# EAGLE library part 504077-1891 (library 504077-1891)
Micro SD card Connector + detect switch Micro SD card Connector + detect switch Source: Datasheet
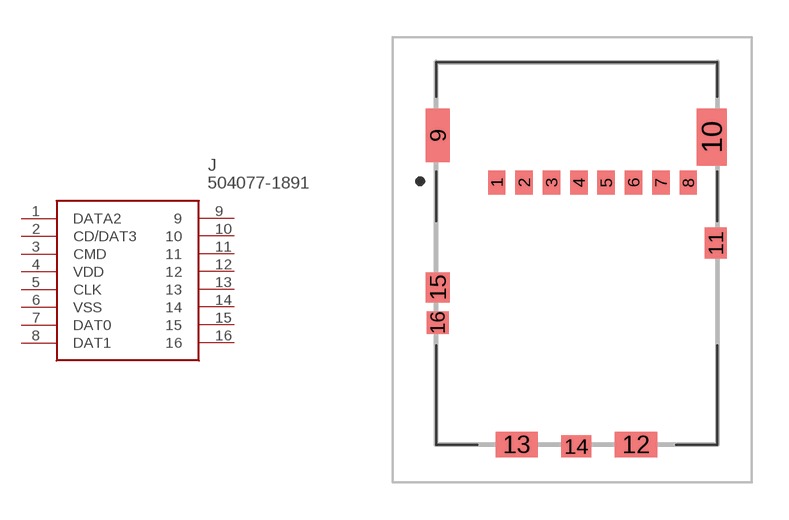
[diagram p0: symbol with the pads of 5040771891; footprint 5040771891]

Designator prefix J

## 504077-1891 (Description: Micro SD card Connector + detect switch Micro SD card Connector + detect switch; Height: 1mm; Manufacturer_Name: Molex; Manufacturer_Part_Number: 504077-1891; Mouser_Part_Number: 538-504077-1891; Mouser_Price-Stock: https://www.mouser.co.uk/ProductDetail/Molex/504077-1891?qs=H5WSs0j7A8cqevxUlTiYxw%3D%3D)  [5040771891]
1  DATA2
2  CD/DAT3
3  CMD
4  VDD  pwr
5  CLK  in
6  VSS  pwr
7  DAT0
8  DAT1
9  9
10  10
11  11
12  12
13  13
14  14
15  15
16  16

## Footprint 5040771891 (pad centres in mm)
504077-1891
smd 0.7 x 0.95: 1 -2.847,2.887; 2 -1.747,2.887; 3 -0.647,2.887; 4 0.453,2.887; 5 1.553,2.887; 6 2.653,2.887; 7 3.753,2.887; 8 4.853,2.887
smd 0.95 x 2.17: 9 -5.222,4.787
smd 1.19 x 2.3: 10 5.798,4.722
smd 0.88 x 1.25: 11 5.963,0.447
smd 1.7 x 1.03: 12 2.753,-7.663; 13 -2.047,-7.663
smd 1.2 x 0.88: 14 0.353,-7.738
smd 0.95 x 1.2: 15 -5.222,-1.338
smd 0.9 x 0.9: 16 -5.222,-2.748